# Altium footprint library MOD-HM-10.PcbLib: 1 footprints
Each footprint in its own frame and in the unit in brackets; x right, y up, seen from the top. Pads: shape width x height; smd on the part's side, far side on the other; paste and mask are expansions set on the pad; w line width, h text height; cw(c..) or ccw(c..) is an arc to the next point about the centre after c.
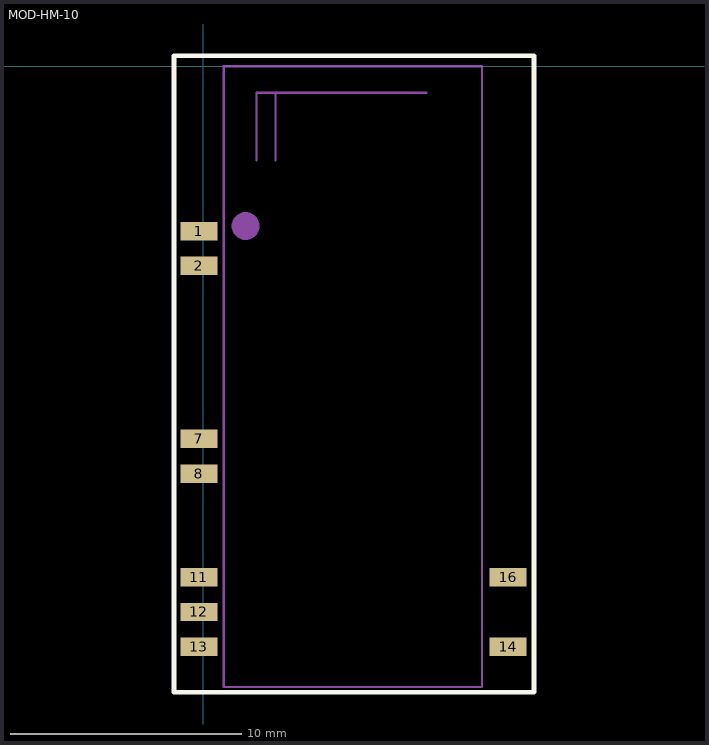
[diagram p0: the footprint, top view; thin cyan lines are the x and y axes]

## MOD-HM-10 [mm]
pads (9):
  rect 1.6x0.8 smd paste+0 mask+0.1: 1(-0.2,-7.15) 2(-0.2,-8.65) 7(-0.2,-16.15) 8(-0.2,-17.65) 11(-0.2,-22.15) 12(-0.2,-23.65) 13(-0.2,-25.15) 14(13.2,-25.15) 16(13.2,-22.15)
Top Overlay:
  lines w0.2: -1.275,-27.125 14.325,-27.125 14.325,0.45 -1.275,0.45 -1.275,-27.125
Bottom 3D Body:
  lines w0.01: -1.25,-27.1 -1.25,0.425 14.3,0.425 14.3,-27.1 -1.25,-27.1
Top Assembly:
  circle w0.6: c1.825,-6.925 r0.3
  lines w0.1: 2.3,-4.075 2.3,-1.15 9.65,-1.15 ; 3.125,-4.075 3.125,-1.15 ; 0.875,-26.9 12.075,-26.9 12.075,0 0.875,0 0.875,-6.45 0.875,-26.9
  text "'.Designator'" at 5.675,-13.35 h0.7
3D body: height 1, standoff 0, extent 0,-26.9 13,0